# EAGLE library part BE-CARRIER (library BlackEdge)
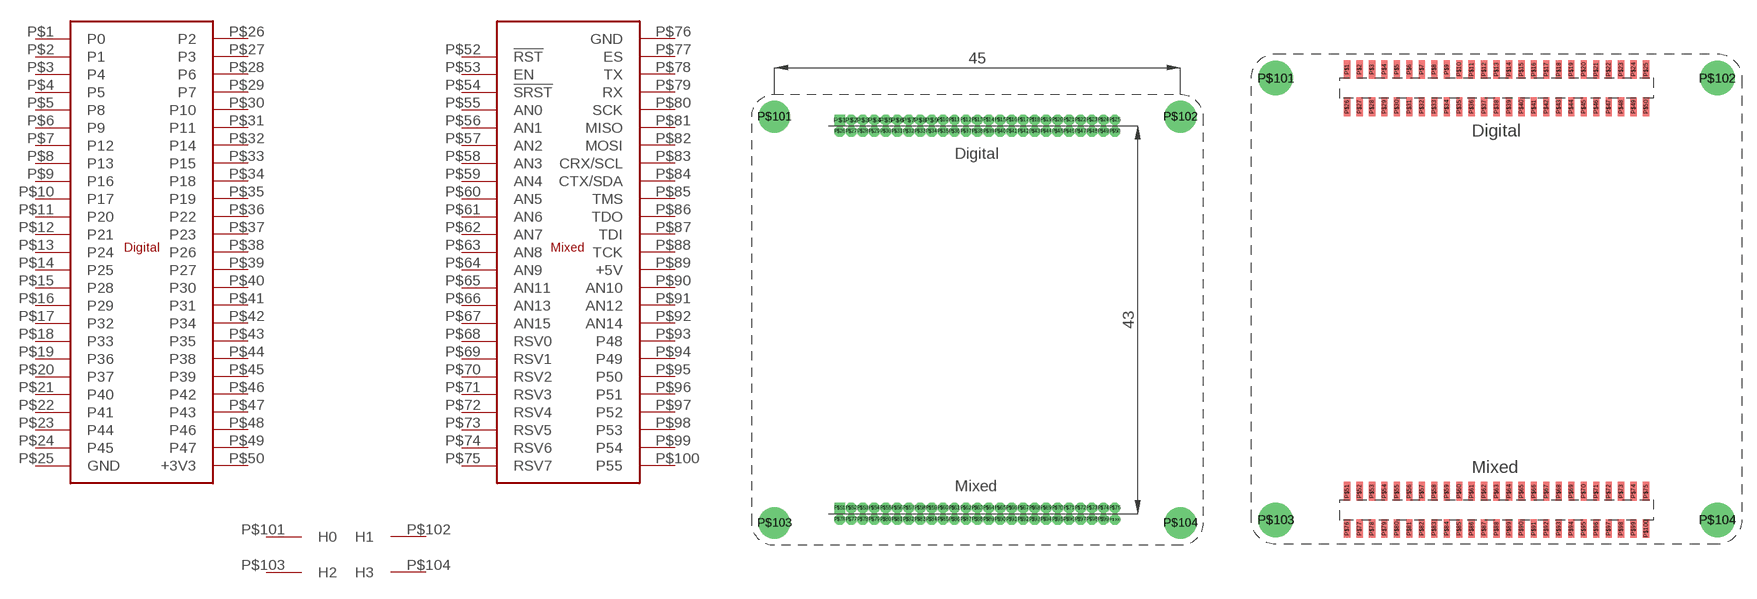
[diagram p0: symbol with the pads of BE-CARRIER; footprints BE-CARRIER, BE-CARRIER-SMD]

Designator prefix -

## BE-CARRIER  [BE-CARRIER]
P$1  P0
P$2  P1
P$3  P4
P$4  P5
P$5  P8
P$6  P9
P$7  P12
P$8  P13
P$9  P16
P$10  P17
P$11  P20
P$12  P21
P$13  P24
P$14  P25
P$15  P28
P$16  P29
P$17  P32
P$18  P33
P$19  P36
P$20  P37
P$21  P40
P$22  P41
P$23  P44
P$24  P45
P$25  GND  sup
P$26  P2
P$27  P3
P$28  P6
P$29  P7
P$30  P10
P$31  P11
P$32  P14
P$33  P15
P$34  P18
P$35  P19
P$36  P22
P$37  P23
P$38  P26
P$39  P27
P$40  P30
P$41  P31
P$42  P34
P$43  P35
P$44  P38
P$45  P39
P$46  P42
P$47  P43
P$48  P46
P$49  P47
P$50  +3V3  sup
P$51  NC  nc
P$52  !RST
P$53  EN
P$54  !SRST
P$55  AN0
P$56  AN1
P$57  AN2
P$58  AN3
P$59  AN4
P$60  AN5
P$61  AN6
P$62  AN7
P$63  AN8
P$64  AN9
P$65  AN11
P$66  AN13
P$67  AN15
P$68  RSV0
P$69  RSV1
P$70  RSV2
P$71  RSV3
P$72  RSV4
P$73  RSV5
P$74  RSV6
P$75  RSV7
P$76  GND  sup
P$77  ES
P$78  TX
P$79  RX
P$80  SCK
P$81  MISO
P$82  MOSI
P$83  CRX/SCL
P$84  CTX/SDA
P$85  TMS
P$86  TDO
P$87  TDI  sup
P$88  TCK
P$89  +5V  sup
P$90  AN10
P$91  AN12
P$92  AN14
P$93  P48
P$94  P49
P$95  P50
P$96  P51
P$97  P52
P$98  P53
P$99  P54
P$100  P55
P$101  H0
P$102  H1
P$103  H2
P$104  H3

## BE-CARRIERSMD  [BE-CARRIER-SMD]
Pads as for BE-CARRIER

## Footprint BE-CARRIER (pad centres in mm)
drill 0.65 pad 1.016 square: P$1 -15.24,22.135; P$51 -15.24,-20.865
drill 0.65 pad 1.016 octagon: P$2 -13.97,22.135; P$3 -12.7,22.135; P$4 -11.43,22.135; P$5 -10.16,22.135; P$6 -8.89,22.135; P$7 -7.62,22.135; P$8 -6.35,22.135; P$9 -5.08,22.135; P$10 -3.81,22.135; P$11 -2.54,22.135; P$12 -1.27,22.135; P$13 0,22.135; P$14 1.27,22.135; P$15 2.54,22.135; P$16 3.81,22.135; P$17 5.08,22.135; P$18 6.35,22.135; P$19 7.62,22.135; P$20 8.89,22.135; P$21 10.16,22.135; P$22 11.43,22.135; P$23 12.7,22.135; P$24 13.97,22.135; P$25 15.24,22.135; P$26 -15.24,20.865; P$27 -13.97,20.865; P$28 -12.7,20.865; P$29 -11.43,20.865; P$30 -10.16,20.865; P$31 -8.89,20.865; P$32 -7.62,20.865; P$33 -6.35,20.865; P$34 -5.08,20.865; P$35 -3.81,20.865; P$36 -2.54,20.865; P$37 -1.27,20.865; P$38 0,20.865; P$39 1.27,20.865; P$40 2.54,20.865; P$41 3.81,20.865; P$42 5.08,20.865; P$43 6.35,20.865; P$44 7.62,20.865; P$45 8.89,20.865; P$46 10.16,20.865; P$47 11.43,20.865; P$48 12.7,20.865; P$49 13.97,20.865; P$50 15.24,20.865; P$52 -13.97,-20.865; P$53 -12.7,-20.865; P$54 -11.43,-20.865; P$55 -10.16,-20.865; P$56 -8.89,-20.865; P$57 -7.62,-20.865; P$58 -6.35,-20.865; P$59 -5.08,-20.865; P$60 -3.81,-20.865; P$61 -2.54,-20.865; P$62 -1.27,-20.865; P$63 0,-20.865; P$64 1.27,-20.865; P$65 2.54,-20.865; P$66 3.81,-20.865; P$67 5.08,-20.865; P$68 6.35,-20.865; P$69 7.62,-20.865; P$70 8.89,-20.865; P$71 10.16,-20.865; P$72 11.43,-20.865; P$73 12.7,-20.865; P$74 13.97,-20.865; P$75 15.24,-20.865; P$76 -15.24,-22.135; P$77 -13.97,-22.135; P$78 -12.7,-22.135; P$79 -11.43,-22.135; P$80 -10.16,-22.135; P$81 -8.89,-22.135; P$82 -7.62,-22.135; P$83 -6.35,-22.135; P$84 -5.08,-22.135; P$85 -3.81,-22.135; P$86 -2.54,-22.135; P$87 -1.27,-22.135; P$88 0,-22.135; P$89 1.27,-22.135; P$90 2.54,-22.135; P$91 3.81,-22.135; P$92 5.08,-22.135; P$93 6.35,-22.135; P$94 7.62,-22.135; P$95 8.89,-22.135; P$96 10.16,-22.135; P$97 11.43,-22.135; P$98 12.7,-22.135; P$99 13.97,-22.135; P$100 15.24,-22.135
drill 2.5: P$101 -22.5,22.5; P$102 22.5,22.5; P$103 -22.5,-22.5; P$104 22.5,-22.5

## Footprint BE-CARRIER-SMD (pad centres in mm)
smd 0.635 x 1.905: P$1 -15.24,23.405; P$2 -13.97,23.405; P$3 -12.7,23.405; P$4 -11.43,23.405; P$5 -10.16,23.405; P$6 -8.89,23.405; P$7 -7.62,23.405; P$8 -6.35,23.405; P$9 -5.08,23.405; P$10 -3.81,23.405; P$11 -2.54,23.405; P$12 -1.27,23.405; P$13 0,23.405; P$14 1.27,23.405; P$15 2.54,23.405; P$16 3.81,23.405; P$17 5.08,23.405; P$18 6.35,23.405; P$19 7.62,23.405; P$20 8.89,23.405; P$21 10.16,23.405; P$22 11.43,23.405; P$23 12.7,23.405; P$24 13.97,23.405; P$25 15.24,23.405; P$26 -15.24,19.595; P$27 -13.97,19.595; P$28 -12.7,19.595; P$29 -11.43,19.595; P$30 -10.16,19.595; P$31 -8.89,19.595; P$32 -7.62,19.595; P$33 -6.35,19.595; P$34 -5.08,19.595; P$35 -3.81,19.595; P$36 -2.54,19.595; P$37 -1.27,19.595; P$38 0,19.595; P$39 1.27,19.595; P$40 2.54,19.595; P$41 3.81,19.595; P$42 5.08,19.595; P$43 6.35,19.595; P$44 7.62,19.595; P$45 8.89,19.595; P$46 10.16,19.595; P$47 11.43,19.595; P$48 12.7,19.595; P$49 13.97,19.595; P$50 15.24,19.595; P$51 -15.24,-19.595; P$52 -13.97,-19.595; P$53 -12.7,-19.595; P$54 -11.43,-19.595; P$55 -10.16,-19.595; P$56 -8.89,-19.595; P$57 -7.62,-19.595; P$58 -6.35,-19.595; P$59 -5.08,-19.595; P$60 -3.81,-19.595; P$61 -2.54,-19.595; P$62 -1.27,-19.595; P$63 0,-19.595; P$64 1.27,-19.595; P$65 2.54,-19.595; P$66 3.81,-19.595; P$67 5.08,-19.595; P$68 6.35,-19.595; P$69 7.62,-19.595; P$70 8.89,-19.595; P$71 10.16,-19.595; P$72 11.43,-19.595; P$73 12.7,-19.595; P$74 13.97,-19.595; P$75 15.24,-19.595; P$76 -15.24,-23.405; P$77 -13.97,-23.405; P$78 -12.7,-23.405; P$79 -11.43,-23.405; P$80 -10.16,-23.405; P$81 -8.89,-23.405; P$82 -7.62,-23.405; P$83 -6.35,-23.405; P$84 -5.08,-23.405; P$85 -3.81,-23.405; P$86 -2.54,-23.405; P$87 -1.27,-23.405; P$88 0,-23.405; P$89 1.27,-23.405; P$90 2.54,-23.405; P$91 3.81,-23.405; P$92 5.08,-23.405; P$93 6.35,-23.405; P$94 7.62,-23.405; P$95 8.89,-23.405; P$96 10.16,-23.405; P$97 11.43,-23.405; P$98 12.7,-23.405; P$99 13.97,-23.405; P$100 15.24,-23.405
drill 2.5: P$101 -22.5,22.5; P$102 22.5,22.5; P$103 -22.5,-22.5; P$104 22.5,-22.5